# Altium footprint library SignalCommunications.PCBLIB: 466 footprints (part 6 of 30)
Each footprint in its own frame and in the unit in brackets; x right, y up, seen from the top. Pads: shape width x height; smd on the part's side, far side on the other; paste and mask are expansions set on the pad; w line width, h text height; cw(c..) or ccw(c..) is an arc to the next point about the centre after c.
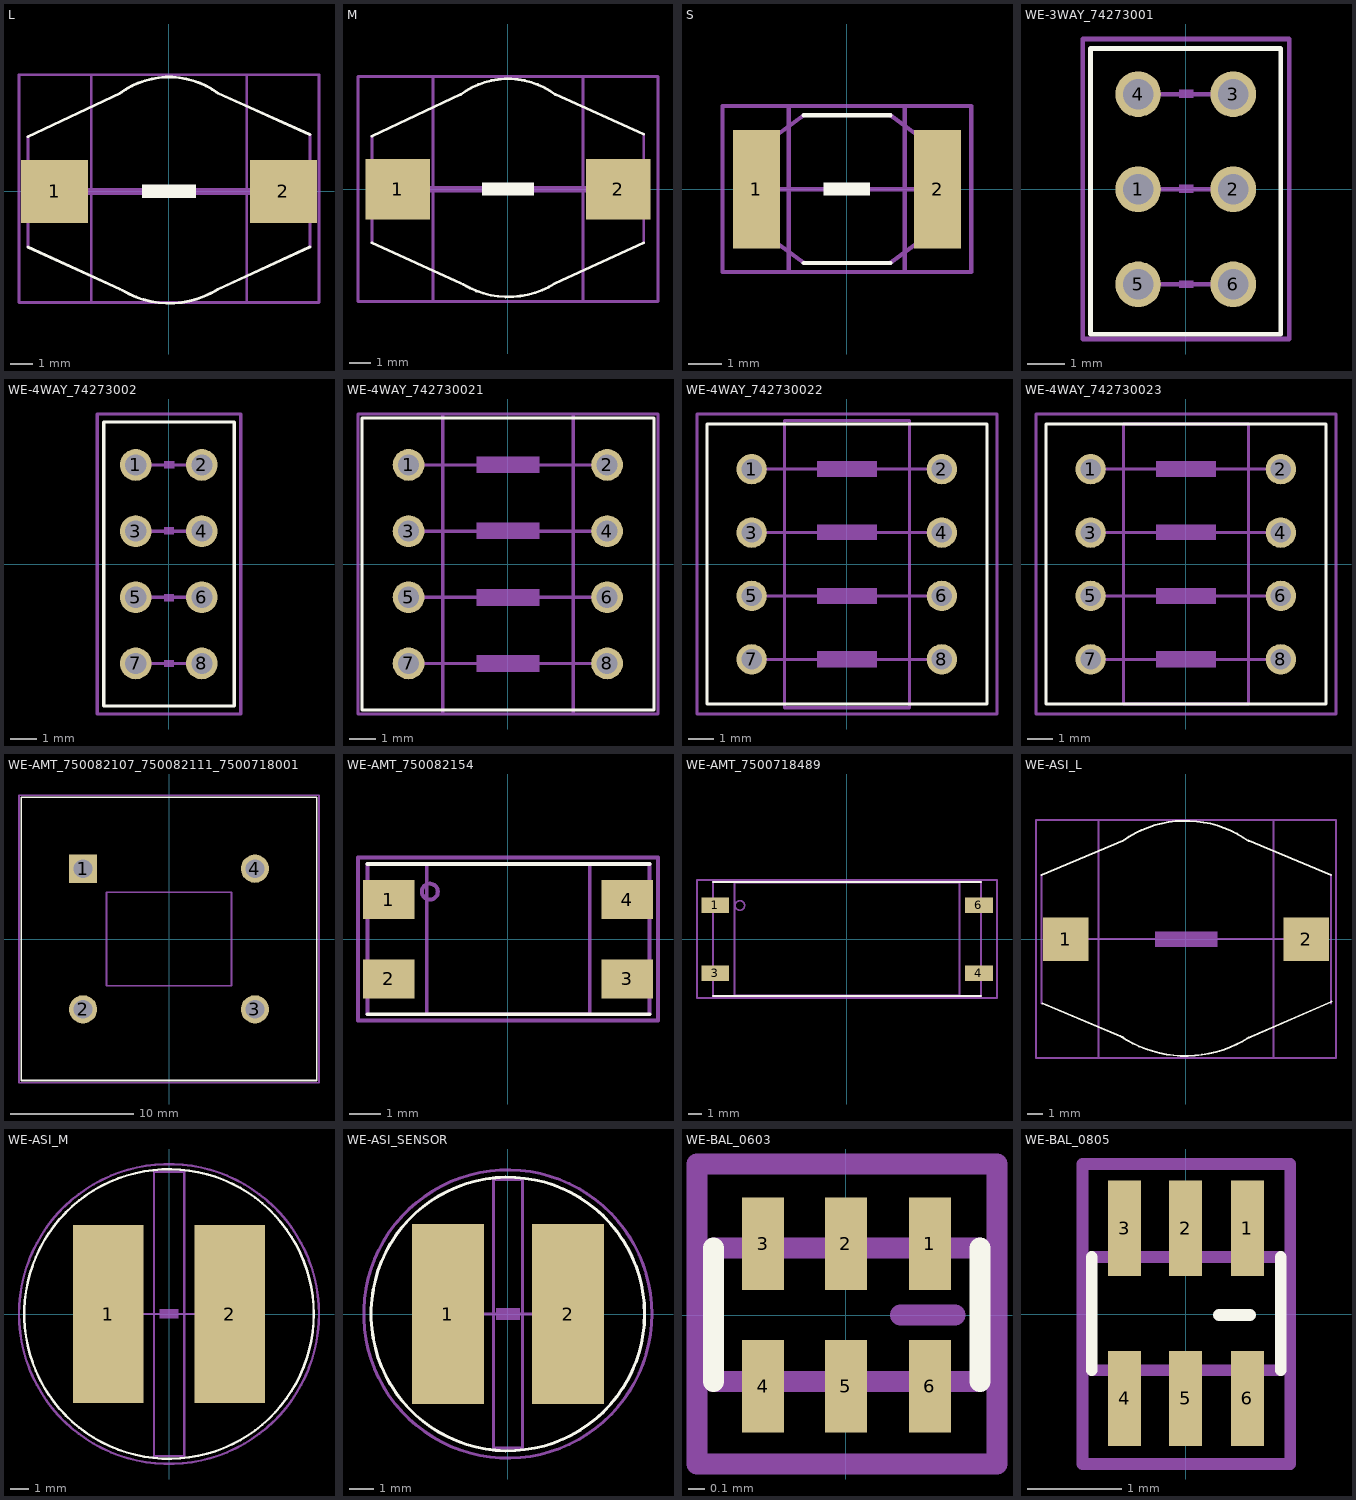
[diagram p5: the footprints below, top view; thin cyan lines are the x and y axes]

## L [mil]
pads (2):
  rect 119x111 smd: 1(-202.76,0) 2(203,0)
Top Overlay:
  region: 47.72,-11.53 47.72,12.28 -47.53,12.28 -47.53,-11.53
  lines w5: -250,-98.43 -86.61,-173.23 ; -250,97 -86.61,174 cw(c0.19,57.6) 87,174 250,101 ; -82.68,-175.2 ccw(c0.57,-36.77) 87,-173.23 250,-98.43
Mechanical 10:
  lines w5: -137.8,-196.85 -137.8,207 138,207 138,-196.85 -137.8,-196.85
Mechanical 16:
  lines w5: -250,-98.43 -250,97 ; 250,-98.43 250,101
  lines w12: -202.76,0 203,0
Mechanical 27:
  lines w5: -265.75,-196.85 -265.75,207 266,207 266,-196.85 -265.75,-196.85

## M [mil]
pads (2):
  rect 119x111 smd: 1(-202.76,0) 2(203,0)
Top Overlay:
  region: 47.72,-11.53 47.72,12.28 -47.53,12.28 -47.53,-11.53
  lines w5: -250,-98.43 -86.61,-173.23 ; -250,97 -86.61,174 cw(c0.19,57.6) 87,174 250,101 ; -82.68,-175.2 ccw(c0.57,-36.77) 87,-173.23 250,-98.43
Mechanical 10:
  lines w5: -137.8,-206.69 -137.8,207 138,207 138,-206.69 -137.8,-206.69
Mechanical 16:
  lines w5: -250,-98.43 -250,97 ; 250,-98.43 250,101
  lines w12: -202.76,0 203,0
Mechanical 27:
  lines w5: -275.59,-206.69 -275.59,207 276,207 276,-206.69 -275.59,-206.69

## S [mil]
pads (2):
  rect 56x141 smd: 1(-107.48,0) 2(108,0)
Top Overlay:
  region: 27.84,-7.72 27.84,8.16 -27.72,8.16 -27.72,-7.72
  lines w5: -51.18,-87.6 52,-87.6 ; -51.18,88 52,88
Mechanical 10:
  lines w5: -68.9,-98.43 -68.9,99 69,99 69,-98.43 -68.9,-98.43
Mechanical 16:
  lines w5: -107.48,0 108,0 ; -51.18,-87.6 -129.92,-29.53 -129.92,30 -51.18,88 ; 52,-87.6 130,-29.53 130,30 52,88
Mechanical 27:
  lines w5: -147.64,-98.43 -147.64,99 148,99 148,-98.43 -147.64,-98.43

## WE-3WAY_74273001 [mil]
pads (6):
  round 48 hole 32: 1(-50,0) 2(50,0) 3(50,100) 4(-50,100) 5(-50,-100) 6(50,-100)
Top Overlay:
  lines w5: -100,-152.36 -100,148 100,148 100,-152.36 -100,-152.36
Mechanical 16:
  rectangle: -7,96 8,105
  rectangle: -7,-4 8,5
  rectangle: -7,-104 8,-96
  lines w5: -50,-100 50,-100 ; -50,0 50,0 ; -50,100 50,100
Mechanical 27:
  lines w5: -108.27,-157.48 109,-157.48 109,158 -108.27,158 -108.27,-157.48

## WE-4WAY_74273002 [mil]
pads (8):
  round 48 hole 32: 1(-50,150) 2(50,150) 3(-50,50) 4(50,50) 5(-50,-50) 6(50,-50) 7(-50,-150) 8(50,-150)
Top Overlay:
  lines w5: -98.43,-214.17 -98.43,215 99,215 99,-214.17 -98.43,-214.17
Mechanical 16:
  rectangle: -7,45 8,56
  rectangle: -7,145 9,156
  rectangle: -7,-56 8,-45
  rectangle: -7,-155 8,-145
  lines w5: -50,-150 50,-150 ; -50,-50 50,-50 ; -50,50 50,50 ; -50,150 50,150
Mechanical 27:
  lines w5: -108.27,-226.38 109,-226.38 109,227 -108.27,227 -108.27,-226.38

## WE-4WAY_742730021 [mil]
pads (8):
  round 48 hole 32: 1(-150,150) 2(150,150) 3(-150,50) 4(150,50) 5(-150,-50) 6(150,-50) 7(-150,-150) 8(150,-150)
Top Overlay:
  lines w5: -220.47,-220.47 -220.47,221 221,221 221,-220.47 -220.47,-220.47
Mechanical 10:
  lines w5: -98.43,-226.38 -98.43,227 99,227 99,-226.38 -98.43,-226.38
Mechanical 16:
  rectangle: -47.24,38 48,63
  rectangle: -47.24,-62.99 48,-37.79
  rectangle: -47.24,-162.99 48,-137
  rectangle: -47.24,138 48,163
  lines w5: -150,-150 150,-150 ; -150,-50 150,-50 ; -150,50 150,50 ; -150,150 150,150
Mechanical 27:
  lines w5: -226.38,-226.38 227,-226.38 227,227 -226.38,227 -226.38,-226.38

## WE-4WAY_742730022 [mil]
pads (8):
  round 48 hole 32: 1(-150,150) 2(150,150) 3(-150,50) 4(150,50) 5(-150,-50) 6(150,-50) 7(-150,-150) 8(150,-150)
Top Overlay:
  lines w5: -220.47,-220.47 -220.47,221 221,221 221,-220.47 -220.47,-220.47
Mechanical 10:
  lines w5: -98.43,-226.38 -98.43,227 99,227 99,-226.38 -98.43,-226.38
Mechanical 16:
  rectangle: -47.24,38 48,63
  rectangle: -47.24,-62.99 48,-37.79
  rectangle: -47.24,-162.99 48,-137
  rectangle: -47.24,138 48,163
  lines w5: -150,-150 150,-150 ; -150,-50 150,-50 ; -150,50 150,50 ; -150,150 150,150
Mechanical 27:
  lines w5: -236.22,-236.22 -236.22,237 237,237 237,-236.22 -236.22,-236.22

## WE-4WAY_742730023 [mil]
pads (8):
  round 48 hole 32: 1(-150,150) 2(150,150) 3(-150,50) 4(150,50) 5(-150,-50) 6(150,-50) 7(-150,-150) 8(150,-150)
Top Overlay:
  lines w5: -220.47,-220.47 -220.47,221 221,221 221,-220.47 -220.47,-220.47
Mechanical 10:
  lines w5: -98.43,-220.47 -98.43,221 99,221 99,-220.47 -98.43,-220.47
Mechanical 16:
  rectangle: -47.24,38 48,63
  rectangle: -47.24,-62.99 48,-37.79
  rectangle: -47.24,-162.99 48,-137
  rectangle: -47.24,138 48,163
  lines w5: -150,-150 150,-150 ; -150,-50 150,-50 ; -150,50 150,50 ; -150,150 150,150
Mechanical 27:
  lines w5: -236.22,-236.22 -236.22,237 237,237 237,-236.22 -236.22,-236.22

## WE-AMT_750082107_750082111_7500718001 [mil]
pads (4):
  rect 90x90 hole 60: 1(-275,225)
  round 90 hole 60: 2(-275,-225) 3(275,-225) 4(275,225)
Top Overlay:
  lines w5: -472.44,-452.76 473,-452.76 473,453 -472.44,453 -472.44,-452.76
Mechanical 10:
  lines w5: -200,-150 -200,150 200,150 200,-150 -200,-150
Mechanical 27:
  lines w5: -480,-460 -480,460 480,460 480,-460 -480,-460

## WE-AMT_750082154 [mil]
pads (4):
  rect 65x49 smd: 1(-150,50) 2(-150,-50) 3(150,-50) 4(150,50)
Top Overlay:
  lines w5: -177.17,-94.49 178,-94.49 ; -177.17,95 178,95
Mechanical 2:
  circle w5: c-98.43,60 r10
Mechanical 10:
  lines w5: -102.36,-94.49 -102.36,95 103,95 103,-94.49 -102.36,-94.49
Mechanical 16:
  lines w5: -177.17,-94.49 -177.17,95 ; 178,-94.49 178,95
Mechanical 27:
  lines w5: -188.98,-102.36 189,-102.36 189,103 -188.98,103 -188.98,-102.36

## WE-AMT_7500718489 [mil]
pads (4):
  rect 82x45 smd: 1(-387.2,100) 3(-387.2,-100) 4(388,-100) 6(388,100)
Top Overlay:
  lines w5: -393.7,-167.32 394,-167.32 ; -393.7,168 394,168
Mechanical 2:
  circle w5: c-314.96,99 r14
Mechanical 10:
  lines w5: -330.71,-165.35 -330.71,166 331,166 331,-165.35 -330.71,-165.35
Mechanical 16:
  lines w5: -393.7,-167.32 -393.7,168 ; 394,-167.32 394,168
Mechanical 27:
  lines w5: -440.94,-173.23 -440.94,174 441,174 441,-173.23 -440.94,-173.23

## WE-ASI_L [mil]
pads (2):
  rect 115x110 smd: 1(-302.56,0) 2(303,0)
Top Overlay:
  lines w5: -364.17,162 -157.48,249 cw(c-1.14,27.16) 158,247 ; -362.2,-161.42 -157.48,-248.03 ; -165.35,-244.09 ccw(c-0.64,3.24) 158,-248.03 ; 154,-250 367,-157.48 ; 158,249 365,162
Mechanical 10:
  lines w5: -220.47,-299.21 -220.47,300 221,300 221,-299.21 -220.47,-299.21
Mechanical 16:
  region: 79.03,-19.71 79.03,19.97 -78.71,19.97 -78.71,-19.71
  lines w5: -364.17,-161.42 -364.17,162 ; -302.56,0 303,0 ; 365,-161.42 365,162
Mechanical 27:
  lines w5: -377.95,-299.21 -377.95,300 378,300 378,-299.21 -377.95,-299.21

## WE-ASI_M [mil]
pads (2):
  rect 148x375 smd: 1(-127.95,0) 2(128,0)
Top Overlay:
  circle w5: c0,0 r305
Mechanical 10:
  lines w5: -31.5,-299.21 -31.5,300 32,300 32,-299.21 -31.5,-299.21
Mechanical 16:
  region: 19.92,-9.76 19.92,10.08 -19.76,10.08 -19.76,-9.76
  lines w5: -100.39,0 99,0
Mechanical 27:
  circle w5: c0,0 r316

## WE-ASI_SENSOR [mil]
pads (2):
  rect 119x296 smd: 1(-98.43,0) 2(99,0)
Top Overlay:
  circle w5: c0,0 r225
Mechanical 10:
  lines w5: -23.62,-220.47 -23.62,221 24,221 24,-220.47 -23.62,-220.47
Mechanical 16:
  region: 19.92,-9.76 19.92,10.08 -19.76,10.08 -19.76,-9.76
  lines w5: -98.43,0 99,0
Mechanical 27:
  circle w5: c0,0 r237

## WE-BAL_0603 [mil]
pads (6):
  rect 10x22 smd: 1(20,17) 2(0,17) 3(-19.68,17) 4(-19.68,-16.93) 5(0,-16.93) 6(20,-16.93)
Top Overlay:
  lines w5: -31.5,-15.75 -31.5,16 ; 32,-15.75 32,16
Mechanical 16:
  lines w5: -31.5,-15.75 32,-15.75 ; -31.5,16 32,16 ; 13,0 26,0
Mechanical 27:
  lines w5: -35.43,-35.43 -35.43,36 36,36 36,-35.43 -35.43,-35.43

## WE-BAL_0805 [mil]
pads (6):
  rect 14x40 smd: 1(26,36) 2(0,36) 3(-25.59,36) 4(-25.59,-35.43) 5(0,-35.43) 6(26,-35.43)
Top Overlay:
  lines w5: -39.37,-23.62 -39.37,24 ; 14,-0.39 27,-0.39 ; 40,-23.62 40,24
Mechanical 16:
  lines w5: -39.37,-23.62 40,-23.62 ; -39.37,24 40,24
Mechanical 27:
  lines w5: -43.31,-62.99 -43.31,63 44,63 44,-62.99 -43.31,-62.99